# EAGLE library part CHIPCAP (library lpatiny)
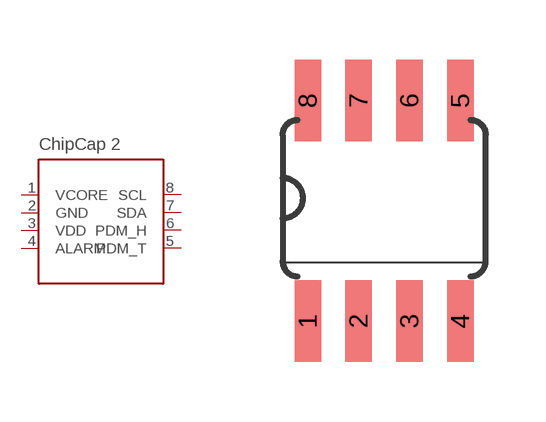
[diagram p22: symbol with the pads of CHIPCAP; footprint CHIPCAP]

Designator prefix -

## CHIPCAP  [CHIPCAP]
1  VCORE
2  GND  pwr
3  VDD  pwr
4  ALARM
5  PDM_T
6  PDM_H
7  SDA
8  SCL

## Footprint CHIPCAP (pad centres in mm)
smd 0.66 x 2.032: 1 -2.54,-3.073; 2 -1.27,-3.073; 3 0,-3.073; 4 1.27,-3.073; 5 1.27,2.438; 6 0,2.438; 7 -1.27,2.438; 8 -2.54,2.438